# Altium integrated library NFET.IntLib: 8 symbols
Pins are listed as number, name and electrical type; pins without a type are passive.

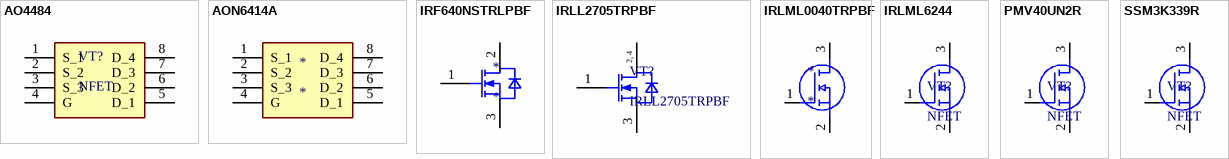
[diagram p0: symbols AO4484 to SSM3K339R]

## AO4484
designator VT?, comment NFET
footprint SOIC127P600X175-8N
pins: 1 S_1, 2 S_2, 3 S_3, 4 G, 5 D_1, 6 D_2, 7 D_3, 8 D_4

## AON6414A
designator *
footprint 8-DFN (5x6)
pins: 1 S_1, 2 S_2, 3 S_3, 4 G, 5 D_1, 6 D_2, 7 D_3, 8 D_4

## IRF640NSTRLPBF
designator *
footprint IRF640NSTRLPBF
pins: 1 GATE, 2 2,4, 3 SOURCE

## IRLL2705TRPBF
designator VT?
footprint IRLL2705TRBF
pins: 1 GATE, 2 DRAIN, 3 SOURCE, 4 DRAIN
text: 2, 4

## IRLML0040TRPBF
designator *
footprint SOT95P237X112-3N-2-V
pins: 1 G, 2 S, 3 D

## IRLML6244
designator VT?, comment NFET
footprint SOT95P230x110-3N
pins: 1 G, 2 S, 3 D

## PMV40UN2R
designator VT?, comment NFET
footprint SOT95P230x110-3N
pins: 1 G, 2 S, 3 D

## SSM3K339R
designator VT?, comment NFET
footprint SOT95P230x110-3N
pins: 1 G, 2 S, 3 D